# Altium footprint library Si7370.PcbLib: 1 footprints
Each footprint in its own frame and in the unit in brackets; x right, y up, seen from the top. Pads: shape width x height; smd on the part's side, far side on the other; paste and mask are expansions set on the pad; w line width, h text height; cw(c..) or ccw(c..) is an arc to the next point about the centre after c.
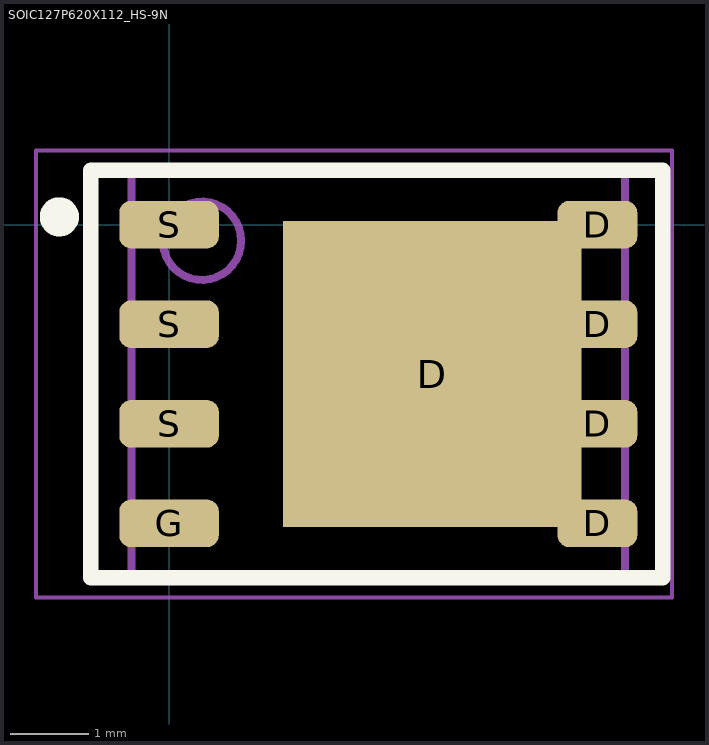
[diagram p0: the footprint, top view; thin cyan lines are the x and y axes]

## SOIC127P620X112_HS-9N [mm] "SOIC, 8-Leads, Body 5.10x6.15mm, Pitch 1.27mm, Thermal Pad 3.91x3.84mm, IPC Medium Density"
height 1.12
pads (9):
  rect 3.81x3.91 smd: D(3.36,-1.905)
  rrect50% 1.02x0.61 smd: D(5.465,-3.81) D(5.465,-2.54) D(5.465,-1.27) D(5.465,0)
  rrect50% 1.27x0.61 smd: G(0,-3.81) S(0,-2.54) S(0,-1.27) S(0,0)
Top Overlay:
  circle w0.25: c-1.4,0.1 r0.125
  lines w0.2: -1,-4.505 -1,0.695 6.3,0.695 6.3,-4.505 -1,-4.505
Mechanical 13:
  circle w0.1: c0.42,-0.205 r0.5
  lines w0.1: -0.48,-4.505 -0.48,0.695 5.82,0.695 5.82,-4.505 -0.48,-4.505
Mechanical 15:
  lines w0.05: -1.7,-4.755 -1.7,0.945 6.42,0.945 6.42,-4.755 -1.7,-4.755
  lines w0.1: 2.17,-1.905 3.17,-1.905 ; 2.67,-2.405 2.67,-1.405
3D body: height 0.25, standoff 0, extent 2.09,1.23 2.09,1.23
3D body "User Library-PowerPAK_SO8_single.STEP": height 1.12, standoff 0, extent -0.455,-4.52 5.785,0.73